# Altium footprint library UVM AERO BSPD2.PcbLib: 51 footprints (part 1 of 4)
Each footprint in its own frame and in the unit in brackets; x right, y up, seen from the top. Pads: shape width x height; smd on the part's side, far side on the other; paste and mask are expansions set on the pad; w line width, h text height; cw(c..) or ccw(c..) is an arc to the next point about the centre after c.
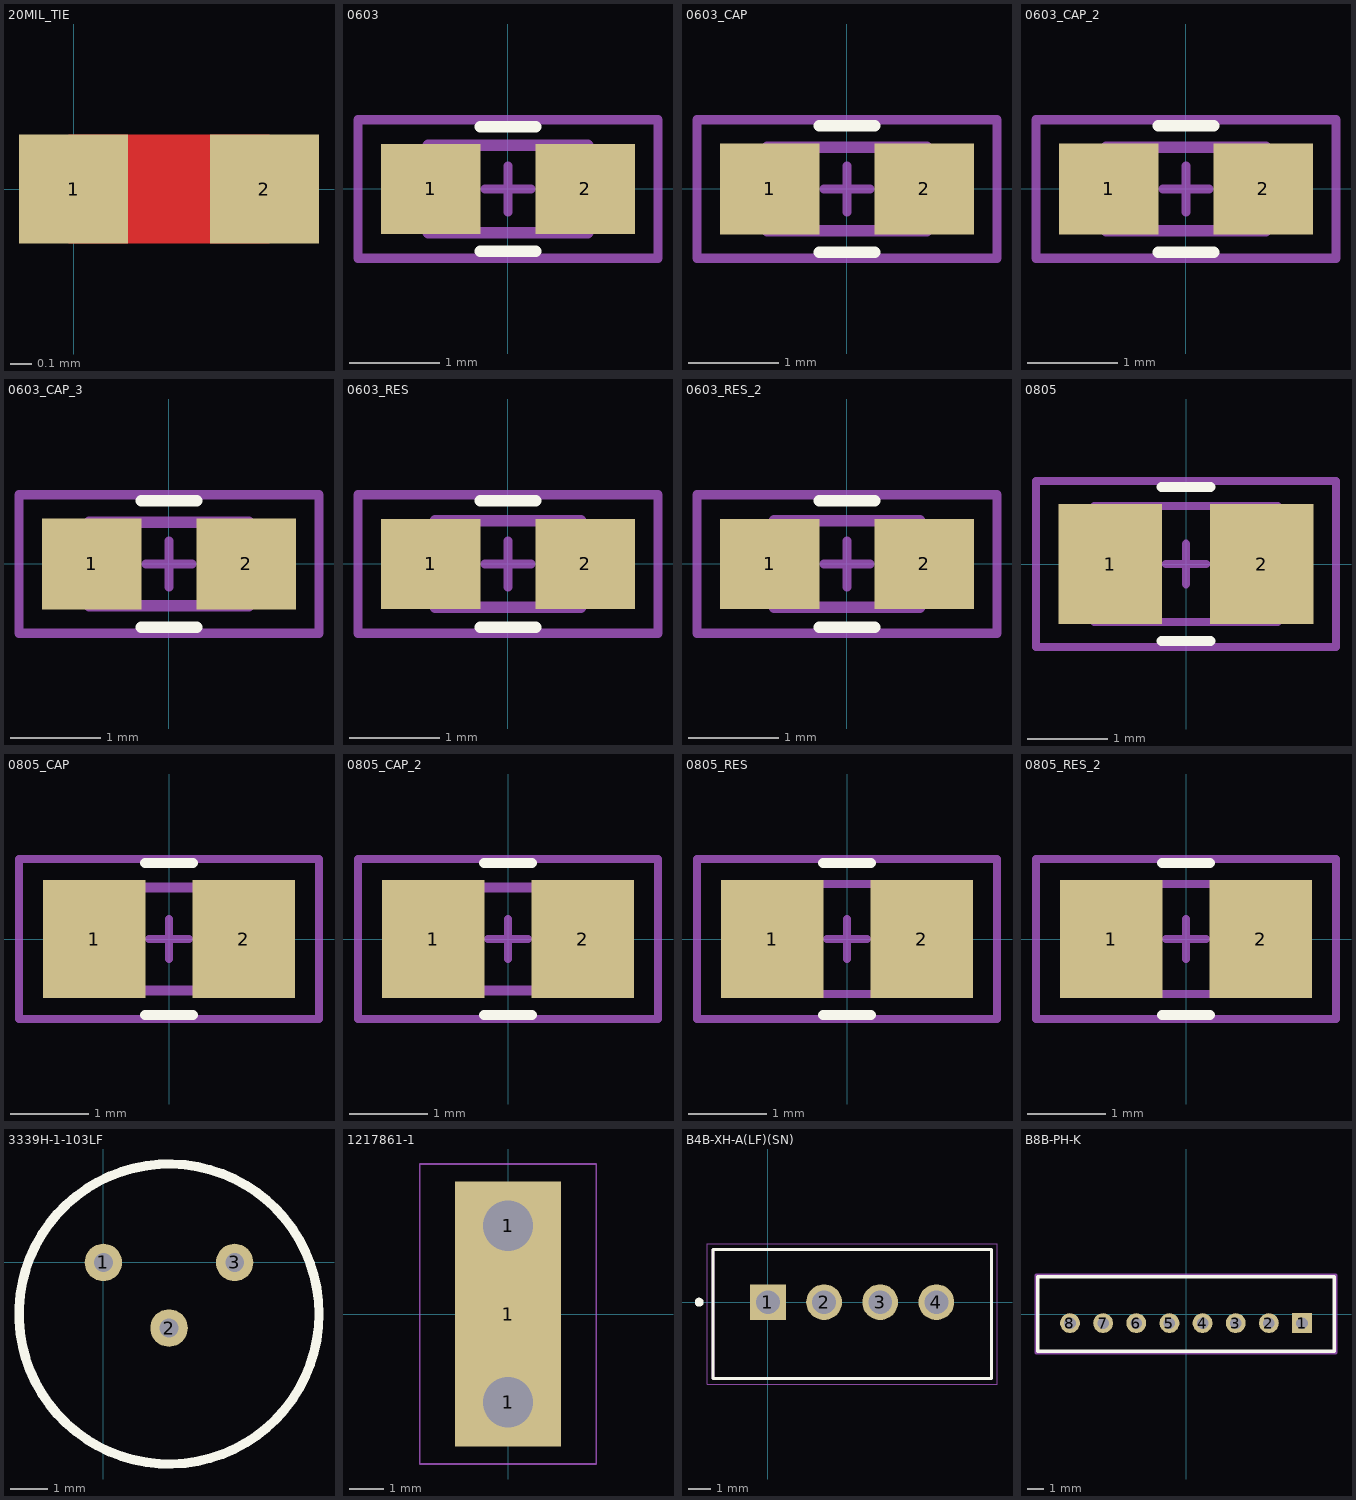
[diagram p0: the footprints below, top view; thin cyan lines are the x and y axes]

## 20MIL_TIE [mil]
pads (2):
  rect 20x20 smd paste-100 mask-100: 1(0,0) 2(35,0)
Top Layer:
  lines w20: 0,0 35,0

## 0603 [mil] "Body 1.6 x 0.8 mm (LxW typ)"
height 38
pads (2):
  rect 43x39 smd: 1(-33.5,0) 2(33.5,0)
Top Overlay:
  lines w5: -12,-27 12,-27 ; -12,27 12,27
Mechanical 3:
  text "SS 102512, ADDED SILKSCREEN." at 6,25 h1
  text "LOCATION: SURFACEMOUNT2LEAD.PCBLIB" at -62,27 h1
  text "HISTORY: MT 021011, OLDER FOOTPRINT, SAME SIZE AS 0603_RES FOOTPRINT." at -62,25 h1
Mechanical 4:
  lines w4: -65,-30 65,-30 65,30 -65,30 -65,-30
Mechanical 6:
  lines w4: -10,0 10,0 ; 0,-10 0,10
Mechanical 7:
  lines w5: -34.5,-19 34.5,-19 34.5,19 -34.5,19 -34.5,-19
  text ".Designator" at -78,-15 h30
3D body: height 38, standoff 0, extent 14.5,-19 34.5,19
3D body: height 38, standoff 0, extent -14.5,-19 14.5,19
3D body: height 38, standoff 0, extent -34.5,-19 -14.5,19

## 0603_CAP [mm]
height 0.965
pads (2):
  rect 1.1x1 smd: 1(-0.85,0) 2(0.85,0)
Top Overlay:
  lines w0.127: -0.305,-0.699 0.305,-0.699 ; -0.305,0.699 0.305,0.699
Mechanical 3:
  text "SS 102512, ADDED SILKSCREEN." at -1.473,0.66 h0.03
Mechanical 4:
  lines w0.102: -1.651,-0.762 -1.651,0.762 1.651,0.762 1.651,-0.762 -1.651,-0.762
Mechanical 6:
  lines w0.102: -0.254,0 0.254,0 ; 0,-0.254 0,0.254
Mechanical 7:
  lines w0.127: -0.876,-0.457 -0.876,0.457 0.876,0.457 0.876,-0.457 -0.876,-0.457
  text ".Designator" at -1.981,-0.381 h0.76
3D body "SW3DPS-CAPACITOR 0603.step": height 0.85, standoff -0.01, extent -0.8,-0.432 0.8,0.428
3D body: height 0.95, standoff 0, extent -0.8,-0.432 0.8,0.432

## 0603_CAP_2 [mm]
pads (2):
  rect 1.1x1 smd: 1(-0.85,0) 2(0.85,0)
Top Overlay:
  lines w0.127: -0.305,-0.699 0.305,-0.699 ; -0.305,0.699 0.305,0.699
Mechanical 3:
  text "SS 102512, ADDED SILKSCREEN." at -1.473,0.66 h0.03
Mechanical 4:
  lines w0.102: -1.651,-0.762 -1.651,0.762 1.651,0.762 1.651,-0.762 -1.651,-0.762
Mechanical 6:
  lines w0.102: -0.254,0 0.254,0 ; 0,-0.254 0,0.254
Mechanical 7:
  lines w0.127: -0.876,-0.457 -0.876,0.457 0.876,0.457 0.876,-0.457 -0.876,-0.457
  text ".Designator" at -1.981,-0.381 h0.76
3D body "SW3DPS-CAPACITOR 0603.step": height 0.85, standoff -0.01, extent -0.8,-0.432 0.8,0.428
3D body: height 0.95, standoff 0, extent -0.8,-0.432 0.8,0.432

## 0603_CAP_3 [mm]
pads (2):
  rect 1.1x1 smd: 1(-0.85,0) 2(0.85,0)
Top Overlay:
  lines w0.127: -0.305,-0.699 0.305,-0.699 ; -0.305,0.699 0.305,0.699
Mechanical 3:
  text "SS 102512, ADDED SILKSCREEN." at -1.473,0.66 h0.03
Mechanical 4:
  lines w0.102: -1.651,-0.762 -1.651,0.762 1.651,0.762 1.651,-0.762 -1.651,-0.762
Mechanical 6:
  lines w0.102: -0.254,0 0.254,0 ; 0,-0.254 0,0.254
Mechanical 7:
  lines w0.127: -0.876,-0.457 -0.876,0.457 0.876,0.457 0.876,-0.457 -0.876,-0.457
  text ".Designator" at -1.981,-0.381 h0.76
3D body "SW3DPS-CAPACITOR 0603.step": height 0.85, standoff -0.01, extent -0.8,-0.432 0.8,0.428
3D body: height 0.95, standoff 0, extent -0.8,-0.432 0.8,0.432

## 0603_RES [mil]
height 33.46
pads (2):
  rect 43x39 smd: 1(-33.46,0) 2(33.46,0)
Top Overlay:
  lines w5: -12,-27.5 12,-27.5 ; -12,27.5 12,27.5
Mechanical 3:
  text "SS 102512, ADDED SILKSCREEN." at -57,26 h1
Mechanical 4:
  lines w4: -65,-30 -65,30 65,30 65,-30 -65,-30
Mechanical 6:
  lines w4: -10,0 10,0 ; 0,-10 0,10
Mechanical 7:
  lines w5: -31.5,-18.7 -31.5,18.7 31.5,18.7 31.5,-18.7 -31.5,-18.7
  text ".Designator" at -78,-15 h30
3D body: height 34, standoff 0, extent -31.5,-18.7 -11.5,18.7
3D body: height 34, standoff 0, extent -11.5,-18.7 11.5,18.7
3D body "SW3DPS-RESISTOR 0603.step": height 18.9, standoff -1.18, extent -31.5,-17 31.5,16.86
3D body: height 34, standoff 0, extent 11.5,-18.7 31.5,18.7

## 0603_RES_2 [mil]
pads (2):
  rect 43x39 smd: 1(-33.46,0) 2(33.46,0)
Top Overlay:
  lines w5: -12,-27.5 12,-27.5 ; -12,27.5 12,27.5
Mechanical 3:
  text "SS 102512, ADDED SILKSCREEN." at -57,26 h1
Mechanical 4:
  lines w4: -65,-30 65,-30 65,30 -65,30 -65,-30
Mechanical 6:
  lines w4: -10,0 10,0 ; 0,-10 0,10
Mechanical 7:
  lines w5: -31.5,-18.7 31.5,-18.7 31.5,18.7 -31.5,18.7 -31.5,-18.7
  text ".Designator" at -78,-15 h30
3D body: height 34, standoff 0, extent 11.5,-18.7 31.5,18.7
3D body: height 34, standoff 0, extent -11.5,-18.7 11.5,18.7
3D body "SW3DPS-RESISTOR 0603.step": height 18.9, standoff -1.18, extent -31.5,-17 31.5,16.86
3D body: height 34, standoff 0, extent -31.5,-18.7 -11.5,18.7

## 0805 [mm] "Body 2.0 x 1.2 mm (LxW typ)"
height 1.1
pads (2):
  rect 1.3x1.5 smd: 1(-0.95,0) 2(0.95,0)
Top Overlay:
  lines w0.127: -0.305,-0.965 0.305,-0.965 ; -0.305,0.965 0.305,0.965
Mechanical 3:
  text "HISTORY: 1. MT 090909, UPDATED WITH ASSY & COURTYARD DETAILS. EXTRUDED 3D RE-SIZED BASED ON TDK SMT INDUCTORS." at -1.7,1 h0.03
  text "2. SS 102512, ADDED SILKSCREEN." at -1.702,0.94 h0.03
  text "FOOTPRINT WHERE USED: 1. PASSIVE COMPONENTS/EMI FERRITE BEADS AND CHIPS:SMT INDUCTORS" at -1.7,0.875 h0.03
Mechanical 4:
  lines w0.102: -1.88,-1.041 1.88,-1.041 1.88,1.041 -1.88,1.041 -1.88,-1.041
Mechanical 6:
  lines w0.102: -0.254,0 0.254,0 ; 0,-0.254 0,0.254
Mechanical 7:
  lines w0.102: -1.15,-0.725 1.15,-0.725 1.15,0.725 -1.15,0.725 -1.15,-0.725
  text ".Designator" at -1.778,-0.406 h0.76
3D body: height 1.1, standoff 0, extent -0.642,-0.725 0.642,0.725
3D body: height 1.1, standoff 0, extent 0.642,-0.725 1.15,0.725
3D body: height 1.1, standoff 0, extent -1.15,-0.725 -0.642,0.725

## 0805_CAP [mm]
height 1.524
pads (2):
  rect 1.3x1.5 smd: 1(-0.95,0) 2(0.95,0)
Top Overlay:
  lines w0.127: -0.305,-0.965 0.305,-0.965 ; -0.305,0.965 0.305,0.965
Mechanical 3:
  text "SS 102512, ADDED SILKSCREEN." at -1.829,0.914 h0.03
Mechanical 4:
  lines w0.102: -1.905,-1.016 1.905,-1.016 1.905,1.016 -1.905,1.016 -1.905,-1.016
Mechanical 6:
  lines w0.102: -0.254,0 0.254,0 ; 0,-0.254 0,0.254
Mechanical 7:
  lines w0.127: -1,-0.655 1,-0.655 1,0.655 -1,0.655 -1,-0.655
  text ".Designator" at -1.753,-0.381 h0.76
3D body: height 1.52, standoff 0, extent 0.508,-0.655 1,0.655
3D body: height 1.52, standoff 0, extent -0.508,-0.655 0.508,0.655
3D body: height 1.52, standoff 0, extent -1,-0.655 -0.508,0.655

## 0805_CAP_2 [mm]
pads (2):
  rect 1.3x1.5 smd: 1(-0.95,0) 2(0.95,0)
Top Overlay:
  lines w0.127: -0.305,-0.965 0.305,-0.965 ; -0.305,0.965 0.305,0.965
Mechanical 3:
  text "SS 102512, ADDED SILKSCREEN." at -1.829,0.914 h0.03
Mechanical 4:
  lines w0.102: -1.905,-1.016 1.905,-1.016 1.905,1.016 -1.905,1.016 -1.905,-1.016
Mechanical 6:
  lines w0.102: -0.254,0 0.254,0 ; 0,-0.254 0,0.254
Mechanical 7:
  lines w0.127: -1,-0.655 -1,0.655 1,0.655 1,-0.655 -1,-0.655
  text ".Designator" at -1.753,-0.381 h0.76
3D body: height 1.52, standoff 0, extent -0.508,-0.655 0.508,0.655
3D body: height 1.52, standoff 0, extent 0.508,-0.655 1,0.655
3D body: height 1.52, standoff 0, extent -1,-0.655 -0.508,0.655

## 0805_RES [mm]
height 1.1
pads (2):
  rect 1.3x1.5 smd: 1(-0.95,0) 2(0.95,0)
Top Overlay:
  lines w0.127: -0.305,-0.965 0.305,-0.965 ; -0.305,0.965 0.305,0.965
Mechanical 3:
  text "HISTORY: MT 021711, OLDER FOOTPRINT. STANDARD MAX HEIGHT 1.1MM" at -1.702,0.914 h0.03
  text "LOCATION: SURFACEMOUNT2LEAD.PCBLIB" at -1.702,0.965 h0.03
  text "2. SS 102512, ADDED SILKSCREEN." at -1.702,0.864 h0.03
Mechanical 4:
  lines w0.102: -1.905,-1.016 1.905,-1.016 1.905,1.016 -1.905,1.016 -1.905,-1.016
Mechanical 6:
  lines w0.102: -0.254,0 0.254,0 ; 0,-0.254 0,0.254
Mechanical 7:
  lines w0.102: -1.092,-0.699 1.092,-0.699 1.092,0.699 -1.092,0.699 -1.092,-0.699
  text ".Designator" at -1.829,-0.381 h0.76
3D body: height 1.1, standoff 0, extent -0.584,-0.699 0.584,0.699
3D body: height 1.1, standoff 0, extent 0.575,-0.699 1.092,0.699
3D body: height 1.1, standoff 0, extent -1.092,-0.699 -0.575,0.699

## 0805_RES_2 [mm]
pads (2):
  rect 1.3x1.5 smd: 1(-0.95,0) 2(0.95,0)
Top Overlay:
  lines w0.127: -0.305,-0.965 0.305,-0.965 ; -0.305,0.965 0.305,0.965
Mechanical 3:
  text "HISTORY: MT 021711, OLDER FOOTPRINT. STANDARD MAX HEIGHT 1.1MM" at -1.702,0.914 h0.03
  text "LOCATION: SURFACEMOUNT2LEAD.PCBLIB" at -1.702,0.965 h0.03
  text "2. SS 102512, ADDED SILKSCREEN." at -1.702,0.864 h0.03
Mechanical 4:
  lines w0.102: -1.905,-1.016 1.905,-1.016 1.905,1.016 -1.905,1.016 -1.905,-1.016
Mechanical 6:
  lines w0.102: -0.254,0 0.254,0 ; 0,-0.254 0,0.254
Mechanical 7:
  lines w0.102: -1.092,-0.699 1.092,-0.699 1.092,0.699 -1.092,0.699 -1.092,-0.699
  text ".Designator" at -1.829,-0.381 h0.76
3D body: height 1.1, standoff 0, extent -0.584,-0.699 0.584,0.699
3D body: height 1.1, standoff 0, extent 0.575,-0.699 1.092,0.699
3D body: height 1.1, standoff 0, extent -1.092,-0.699 -0.575,0.699

## 3339H-1-103LF [mil]
pads (3):
  round 40 hole 20 paste-10000: 1(0,0) 2(70,-70) 3(140,0)
Top Overlay:
  circle w10: c70,-55 r160
3D body "3339H001XXX.stp": height 251, standoff -187, extent -80,-205 220,95

## 1217861-1 [mil]
pads (3):
  round 100 hole 57: 1(0,-100) 1(0,100)
  rect 120x300 smd paste-39370.1 mask+4: 1(0,0)
Top Solder:
  rectangle: -60,5 -20,60
  rectangle: 20,-60 60,-5
Top 3D Body:
  lines w2: -100,-170 100,-170 100,170 0,170 -100,170 -100,-170
3D body "c-1217861-1-h-3d.stp": height 415, standoff -137, extent -61.49,-156 60,156

## B4B-XH-A(LF)(SN) [mm]
pads (4):
  rect 1.59x1.59 hole 1.06: 1(0,0)
  round 1.59 hole 1.06: 2(2.5,0) 3(5,0) 4(7.5,0)
Top Overlay:
  circle w0.2: c-3.06,0 r0.1
  lines w0.127: -2.45,-3.4 9.95,-3.4 9.95,2.35 -2.45,2.35 -2.45,-3.4
Top 3D Body:
  lines w0.127: -2.45,-3.4 -2.45,2.35 ; -2.45,-3.4 9.95,-3.4 ; -2.45,-3.4 9.95,-3.4 ; -2.45,-3.4 -2.45,2.35 ; -2.45,2.35 9.95,2.35 ; -2.45,2.35 9.95,2.35 ; 9.95,-3.4 9.95,2.35 ; 9.95,-3.4 9.95,2.35
Bottom Component Outline:
  lines w0.05: -2.7,-3.65 10.2,-3.65 10.2,2.6 -2.7,2.6 -2.7,-3.65
3D body "B4B-XH-A.STEP": height 7, standoff -3.4, extent -2.45,-3.4 9.95,2.35

## B8B-PH-K [mm]
pads (8):
  rect 1.2x1.2 hole 0.7 paste-1000: 1(7,-0.55)
  round 1.2 hole 0.7 paste-1000: 2(5,-0.55) 3(3,-0.55) 4(1,-0.55) 5(-1,-0.55) 6(-3,-0.55) 7(-5,-0.55) 8(-7,-0.55)
Top Overlay:
  lines w0.2: -8.95,-2.25 -8.95,2.25 8.95,2.25 8.95,-2.25 -8.95,-2.25
Top 3D Body:
  lines w0.2: -9.05,-2.35 -9.05,2.35 9.05,2.35 9.05,-2.35 -9.05,-2.35
  text ".Designator" at 0,0 h1
Mechanical 12:
  lines w0.15: -8.95,-2.25 -8.95,2.25 8.95,2.25 8.95,-2.25 -8.95,-2.25
Mechanical 15:
  lines w0.2: -9.05,-2.35 -9.05,2.35 9.05,2.35 9.05,-2.35 -9.05,-2.35
3D body "B8B-PH-K-S.STEP": height 6, standoff -3.4, extent -8.95,-2.25 8.95,2.25